# EAGLE library part KWM-20882CVB (library LED_Matrix)
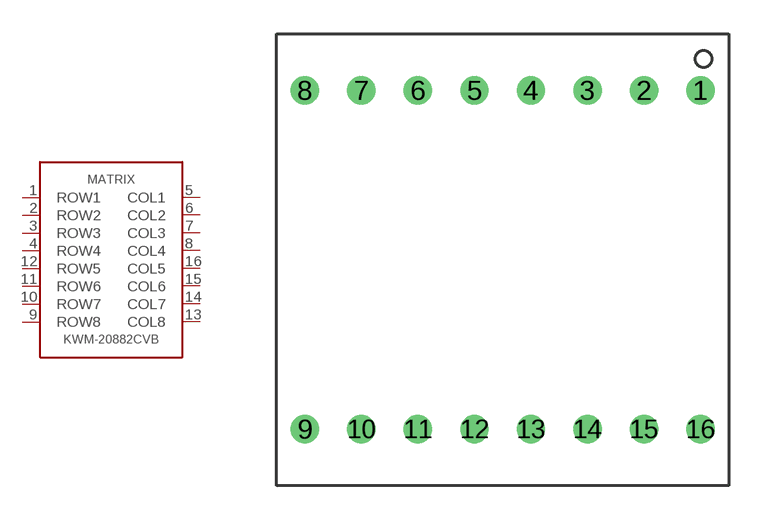
[diagram p1: symbol with the pads of KWM-20882CVB; footprint KWM-20882CVB]

Designator prefix MATRIX

## KWM-20882CVB  [KWM-20882CVB]
1  ROW1
2  ROW2
3  ROW3
4  ROW4
5  COL1
6  COL2
7  COL3
8  COL4
9  ROW8
10  ROW7
11  ROW6
12  ROW5
13  COL8
14  COL7
15  COL6
16  COL5

## Footprint KWM-20882CVB (pad centres in mm)
drill 0.75: 1 8.75,7.5; 2 6.25,7.5; 3 3.75,7.5; 4 1.25,7.5; 5 -1.25,7.5; 6 -3.75,7.5; 7 -6.25,7.5; 8 -8.75,7.5; 9 -8.75,-7.5; 10 -6.25,-7.5; 11 -3.75,-7.5; 12 -1.25,-7.5; 13 1.25,-7.5; 14 3.75,-7.5; 15 6.25,-7.5; 16 8.75,-7.5